# EAGLE library part DB15-BOARD-EDGE (library RPi-Parts)
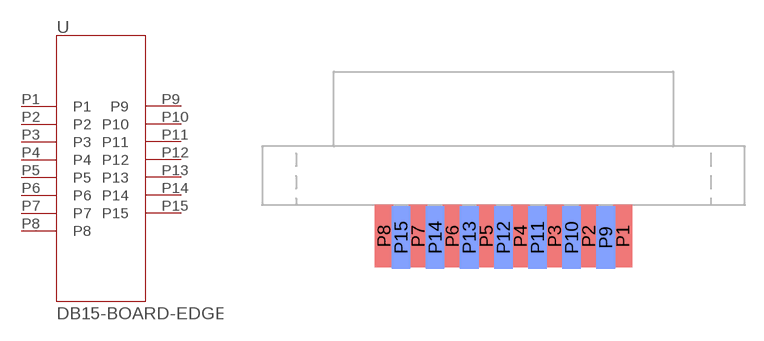
[diagram p4: symbol with the pads of DB15-BOARD-EDGE; footprint DB15-BOARD-EDGE]

Designator prefix -

## DB15-BOARD-EDGE  [DB15-BOARD-EDGE]
P1  P1
P2  P2
P3  P3
P4  P4
P5  P5
P6  P6
P7  P7
P8  P8
P9  P9
P10  P10
P11  P11
P12  P12
P13  P13
P14  P14
P15  P15

## Footprint DB15-BOARD-EDGE (pad centres in mm)
smd 1.5 x 5: P1 9.58,-2.5; P2 6.84,-2.5; P3 4.1,-2.5; P4 1.36,-2.5; P5 -1.38,-2.5; P6 -4.12,-2.5; P7 -6.86,-2.5; P8 -9.6,-2.5
smd 1.5 x 5 bottom: P9 8.21,-2.61; P10 5.47,-2.61; P11 2.73,-2.61; P12 -0.01,-2.61; P13 -2.75,-2.61; P14 -5.49,-2.61; P15 -8.23,-2.61